# Altium schematic symbol library main.SchLib: 296 symbols (part 3 of 5)
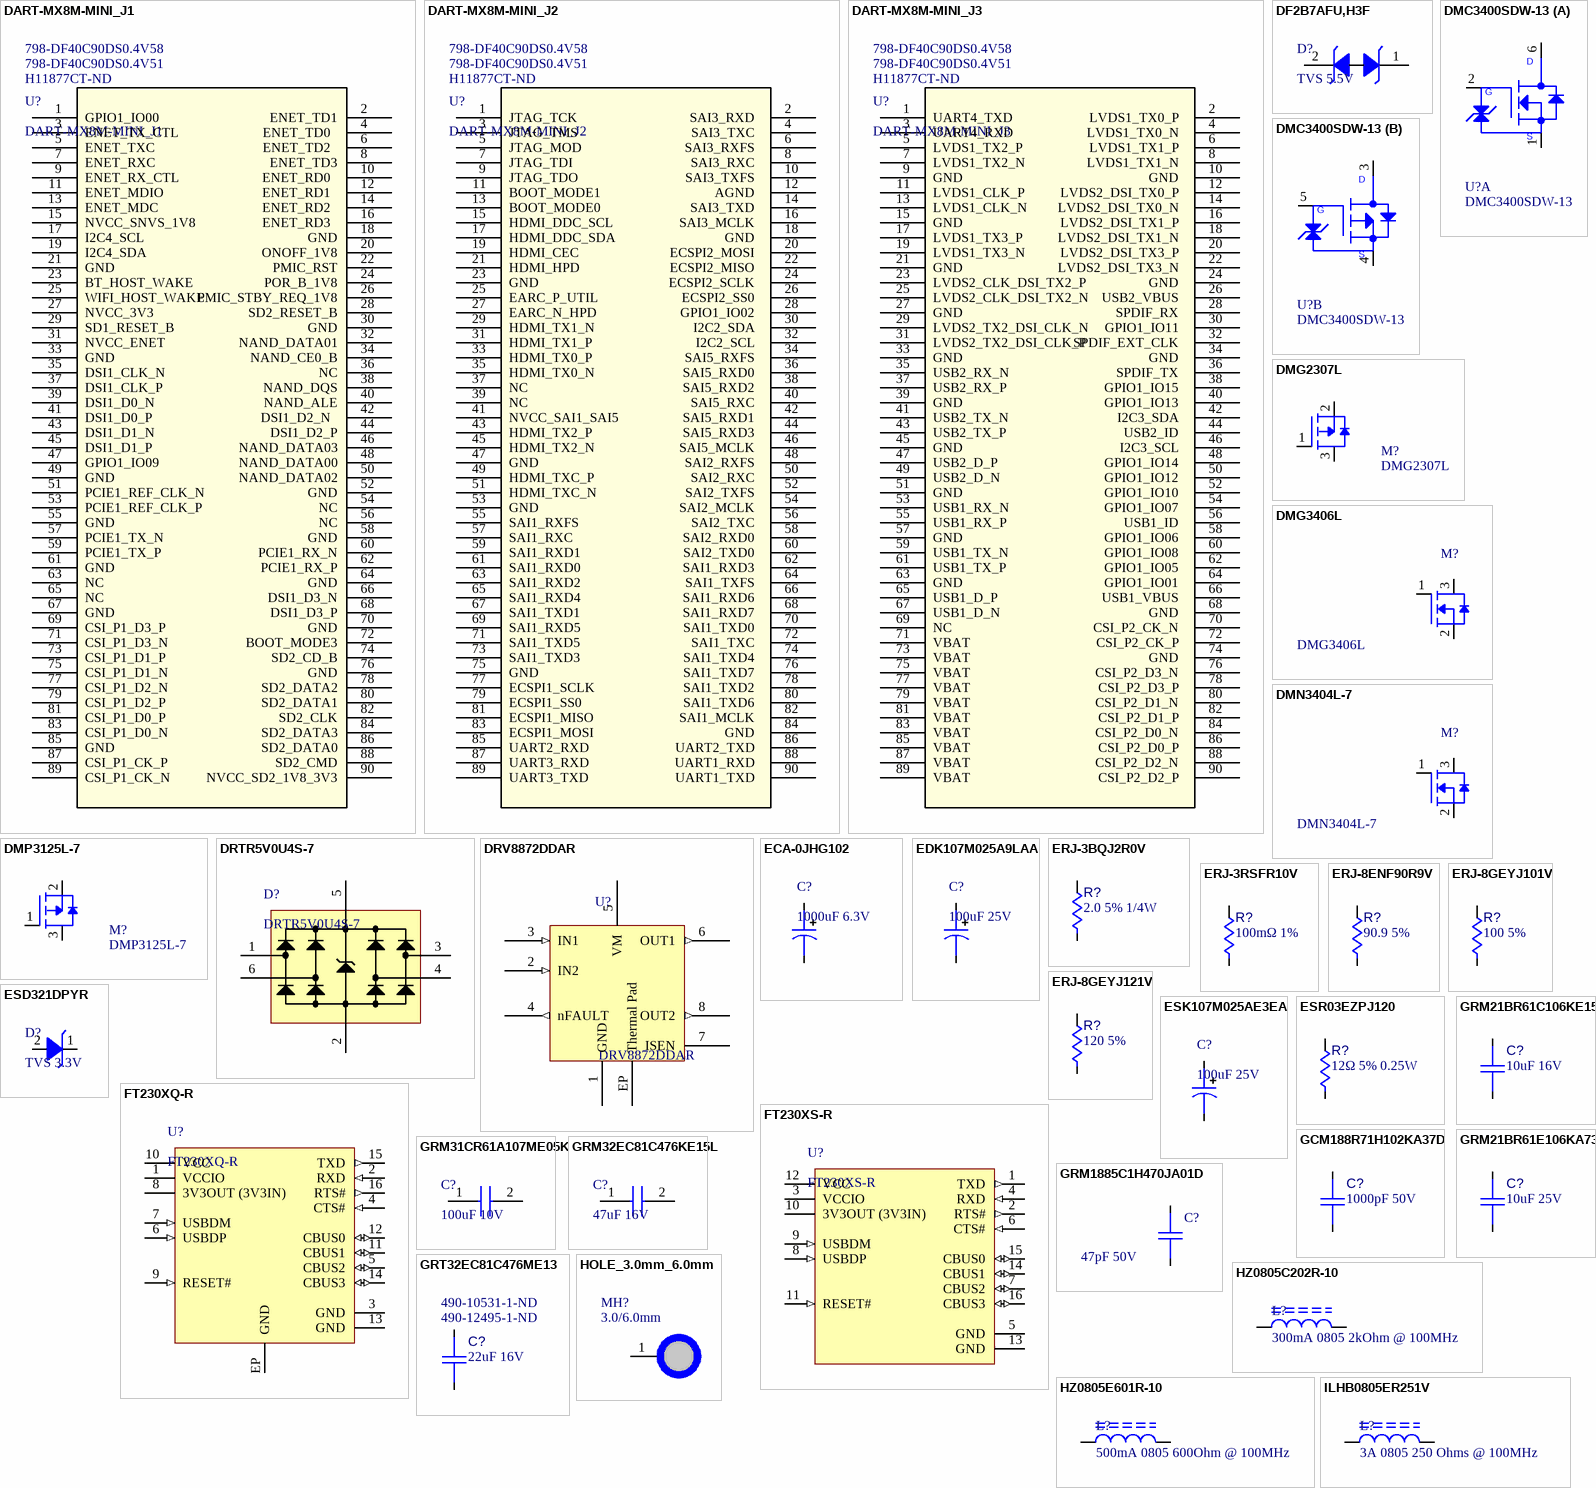
[diagram p11: symbols DART-MX8M-MINI_J1 to ILHB0805ER251V]

## ERJ-8GEYJ121V
designator R?, comment 120 5%
RES SMD 120 OHM 5% 1/4W 1206; Manufacturer: Panasonic; Manufacturer Part Number: ERJ-8GEYJ121V; Power (Watts): 0.25W, 1/4W; Temperature Coefficient: ±200ppm/°C; Resistance: 120ohms; Category: Resistors; Tolerance: ±5%; Features: Automotive; Operating Temperature: -55°C ~ 155°C; ComponentLink1URL: http://www.yageo.com/documents/recent/PYu-RC_Group_51_RoHS_L_7.pdf; ComponentLink1Description: http://www.yageo.com/documents/recent/PYu-RC_Group_51_RoHS_L_7.pdf; Supplier 1: Digi-Key; Supplier Part Number 1: P120ECT-ND
footprint RESC3116X65X50NL20T20 (Chip Resistor, 2-Leads, Body 3.10x1.60mm, IPC Medium Density)
pins: 1, 2

## ESD321DPYR
designator D?, comment TVS 3.3V
TVS DIODE 3.6VWM 6.8VC 2X1SON; Manufacturer: Texas Instruments; Manufacturer Part Number: ESD321DPYR; Voltage - Reverse Standoff (Typ): 3.6V (Max); Capacitance: 0.9pF @ 1MHz; Voltage - Breakdown (Min): 4.5V; Max Operating Temperature: 125°C; ComponentLink1URL: http://www.farnell.com/datasheets/2339786.pdf?src-supplier=Farnell; ComponentLink1Description: http://www.farnell.com/datasheets/2339786.pdf?src-supplier=Farnell; Supplier 1: Digi-Key; Supplier Part Number 1: 296-51108-1-ND
footprint DIODE 0402
pins: 1 K, 2 A

## ESK107M025AE3EA
designator C?, comment 100uF 25V
CAP ALUM 100UF 20% 25V RADIAL; Manufacturer: KEMET; Manufacturer Part Number: ESK107M025AE3EA; Supplier 1: Digi-Key; Category: Aluminum Electrolytic Capacitors; Stock 1: 115854; Pricing 1: 1=0.23000, 10=0.15800, 100=0.08000, 500=0.05474, 1000=0.04842 (USD); Case/Package: Radial; Min Operating Temperature: -40°C; Max Operating Temperature: 85°C; Tolerance: 20%; Voltage Rating: 25V; Capacitance: 100uF; Voltage Rating (DC): 25V; Features: General Purpose; Lead Pitch: 0.098inch; ComponentLink1URL: https://datasheet.ciiva.com/5336/datasheetpn-esk107m025ae3ea-5336461.pdf?src-supplier=Mouser; ComponentLink1Description: https://datasheet.ciiva.com/5336/datasheetpn-esk107m025ae3ea-5336461.pdf?src-supplier=Mouser; Supplier Part Number 1: 399-6650-1-ND
footprint 6.3-11.0_TH_CAP
pins: 1, 2

## ESR03EZPJ120
designator R?, comment 12Ω 5% 0.25W
RES SMD 12 OHM 5% 1/4W 0603; Manufacturer: Rohm; Manufacturer Part Number: ESR03EZPJ120; Power (Watts): 0.25W, 1/4W; Temperature Coefficient: ±200ppm/°C; Resistance: 12ohm; Category: Resistors; Tolerance: ±5%; Features: Automotive AEC-Q200, Pulse Withstanding; Operating Temperature: -55°C ~ 155°C; Supplier 1: Digi-Key; Supplier Part Number 1: RHM12DCT-ND
footprint RESC1608X06N (Chip Resistor, 2-Leads, Body 1.60x0.80mm, IPC Medium Density)
pins: 1, 2

## FT230XQ-R
designator U?
IC USB SERIAL BASIC UART 16QFN; Manufacturer: FTDI; Operating Supply Current: 8mA; Interface: UART,USB; Data Rate: 12Mbps; Operating Supply Voltage: 3.3V ~ 5V; Number of Channels: 1; Manufacturer Part Number: FT230XQ-R; Category: Interface ICs; Min Operating Temperature: -40°C; Max Operating Temperature: 85°C; ComponentLink1URL: https://datasheet.ciiva.com/1787/ds-ft230x-1787315.pdf?src-supplier=Digi-Key; ComponentLink1Description: https://datasheet.ciiva.com/1787/ds-ft230x-1787315.pdf?src-supplier=Digi-Key; Supplier 1: Digi-Key; Supplier Part Number 1: 768-1130-1-ND; Supplier 2: Newark; Supplier Part Number 2: 83T7086
footprint QFP-16 4x4mm w EP
pins: 1 VCCIO (power) "1V8 -3V3 supply for the IO cells.", 2 RXD (in) "Receiving Asynchronous Data Input.", 3 GND (power) "0V Ground input.", 4 CTS# (in) "Clear To Send Control Input / Handshake Signal.", 5 CBUS2 (io) "Configurable CBUS I/O Pin. Function of this pin is configured in the device MTP memory. The default configuration is TXLED#.", 6 USBDP (in) "USB Data Signal Plus.", 7 USBDM (in) "USB Data Signal Minus.", 8 3V3OUT (3V3IN) (power) "3V3 output at 50mA. May be used to power VCCIO. When VCC is 3V3; pin 10 is an input pin and should be connected to pin 12.", 9 RESET# (in) "Reset input (active low).", 10 VCC (power) "5 V (or 3V3) supply to IC.", 11 CBUS1 (io) "Configurable CBUS I/O Pin. Function of this pin is configured in the device MTP memory. The default configuration is RXLED#.", 12 CBUS0 (io) "Configurable CBUS I/O Pin. Function of this pin is configured in the device MTP memory. The default configuration is TXDEN.", 13 GND (power) "0V Ground input.", 14 CBUS3 (io) "Configurable CBUS I/O Pin. Function of this pin is configured in the device MTP memory. The default configuration is SLEEP#.", 15 TXD (out) "Transmit Asynchronous Data Output.", 16 RTS# (out) "Request to Send Control Output / Handshake Signal.", EP GND (power) "0V Ground input."

## FT230XS-R
designator U?
IC USB UART 16-pin SSOP; Manufacturer: FTDI; Operating Supply Current: 8mA; Interface: UART,USB; Data Rate: 12Mbps; Operating Supply Voltage: 5V; Number of Channels: 1; Max Supply Voltage: 5.5V; Min Supply Voltage: 2.97V; Manufacturer Part Number: FT230XS-R; Category: Interface ICs; Stock 1: 36854; Pricing 1: 1=2.04000, 25=1.97000, 100=1.90000, 250=1.71000, 500=1.54000, 1000=1.48750 (USD); Case/Package: SSOP; Min Operating Temperature: -40°C; Max Operating Temperature: 85°C; Height: 0.059inch; ComponentLink1URL: https://datasheet.ciiva.com/1787/ds-ft230x-1787315.pdf?src-supplier=Digi-Key; ComponentLink1Description: https://datasheet.ciiva.com/1787/ds-ft230x-1787315.pdf?src-supplier=Digi-Key; Supplier 1: Digi-Key; Supplier Part Number 1: 768-1135-1-ND; Supplier 2: RSComponents; Supplier Part Number 2: 7570010P
footprint SOP64P600X175-16N (FT230XS-R SOP, 16-Leads, Body 4.90x3.90mm, Pitch 0.64mm, IPC Medium Density)
pins: 1 TXD (out) "Transmit Asynchronous Data Output.", 2 RTS# (out) "Request to Send Control Output / Handshake Signal.", 3 VCCIO (power) "1V8 -3V3 supply for the IO cells.", 4 RXD (in) "Receiving Asynchronous Data Input.", 5 GND (power) "0V Ground input.", 6 CTS# (in) "Clear To Send Control Input / Handshake Signal.", 7 CBUS2 (io) "Configurable CBUS I/O Pin. Function of this pin is configured in the device MTP memory. The default configuration is TXLED#.", 8 USBDP (in) "USB Data Signal Plus.", 9 USBDM (in) "USB Data Signal Minus.", 10 3V3OUT (3V3IN) (power) "3V3 output at 50mA. May be used to power VCCIO. When VCC is 3V3; pin 10 is an input pin and should be connected to pin 12.", 11 RESET# (in) "Reset input (active low).", 12 VCC (power) "5 V (or 3V3) supply to IC.", 13 GND (power) "0V Ground input.", 14 CBUS1 (io) "Configurable CBUS I/O Pin. Function of this pin is configured in the device MTP memory. The default configuration is RXLED#.", 15 CBUS0 (io) "Configurable CBUS I/O Pin. Function of this pin is configured in the device MTP memory. The default configuration is TXDEN.", 16 CBUS3 (io) "Configurable CBUS I/O Pin. Function of this pin is configured in the device MTP memory. The default configuration is SLEEP#."

## GCM188R71H102KA37D
designator C?, comment 1000pF 50V
CAP CER 1000PF 50V X7R 0603; Manufacturer: Murata; Manufacturer Part Number: GCM188R71H102KA37D; Tolerance: 10%; Category: Ceramic Capacitors; Stock 1: 7548353; Pricing 1: 1=0.10000, 10=0.05000, 100=0.02240, 500=0.01602, 1000=0.01258 (USD); Case/Package: 0603; Min Operating Temperature: -55°C; Max Operating Temperature: 125°C; Temperature Coefficient: X7R; Capacitance: 1000pF; Voltage Rating: 50V; Height: 0.8mm; ComponentLink1URL: https://datasheet.ciiva.com/25741/cl10b102ka8nnnc-25741936.pdf?src-supplier=Digi-Key; ComponentLink1Description: https://datasheet.ciiva.com/25741/cl10b102ka8nnnc-25741936.pdf?src-supplier=Digi-Key; Supplier 1: Digi-Key; Supplier Part Number 1: 490-4777-1-ND
footprint CAPC1608X09N (Chip Capacitor, 2-Leads, Body 1.60x0.80mm, IPC Medium Density)
pins: 1, 2

## GRM21BR61C106KE15K
designator C?, comment 10uF 16V
CAP CER 10UF 16V X5R 0805; Manufacturer: Murata Electronics North America; Manufacturer Part Number: GRM21BR61C106KE15K; Tolerance: ±10%; Category: Capacitors; Stock 1: 375724; Pricing 1: 1=0.21, 10=0.152, 100=0.0715, 500=0.05016, 1000=0.04152, 2500=0.03864, 5000=0.03536 (USD); Temperature Coefficient: X5R; Operating Temperature: -55°C ~ 85°C; Features: -; Applications: General Purpose; Mounting Type: Surface Mount, MLCC; ComponentLink1URL: http://search.murata.co.jp/Ceramy/image/img/A01X/G101/ENG/GRM21BR61C106KE15-01.pdf; ComponentLink1Description: http://search.murata.co.jp/Ceramy/image/img/A01X/G101/ENG/GRM21BR61C106KE15-01.pdf; Capacitance: 10uF; Supplier 1: Digi-Key; Supplier Part Number 1: 490-6473-1-ND; Supplier 2: RSComponents; Supplier Part Number 2: 8202762
footprint CAPC2012X14N (Chip Capacitor, 2-Leads, Body 2.00x1.25mm, IPC Medium Density)
pins: 1, 2

## GRM21BR61E106KA73L
designator C?, comment 10uF 25V
CAP CER 10UF 25V X5R 0805; Manufacturer: Muata; Manufacturer Part Number: GRM21BR61E106KA73L; Tolerance: ±10%; Category: Capacitors; Temperature Coefficient: X5R; Operating Temperature: -55°C ~ 85°C; Features: -; Mounting Type: Surface Mount, MLCC; ComponentLink1URL: http://search.murata.co.jp/Ceramy/image/img/A01X/G101/ENG/GRM21BR61C106KE15-01.pdf; ComponentLink1Description: http://search.murata.co.jp/Ceramy/image/img/A01X/G101/ENG/GRM21BR61C106KE15-01.pdf; Capacitance: 10uF; Voltage - Rated: 25V; Supplier 1: Digi-Key; Supplier Part Number 1: 490-5523-1-ND; Supplier 2: Newark; Supplier Part Number 2: 19X1719
footprint CAPC2012X14N (Chip Capacitor, 2-Leads, Body 2.00x1.25mm, IPC Medium Density)
pins: 1, 2

## GRM31CR61A107ME05K
designator C?, comment 100uF 10V
CAP CER 100UF 10V X5R 1206; Manufacturer_Name: Murata Electronics; Manufacturer_Part_Number: GRM31CR61A107ME05K; Tolerance: 20%; Datasheet Link: https://www.digikey.com/en/products/detail/murata-electronics/GRM32EC81C476KE15L/5027615; Height: -; ComponentLink1Description: New link; ComponentLink1URL: *; Supplier 1: Mouser; Capacitance: 100uF; Supplier Part Number 1: 81-GRM31CR61A107ME5K; Voltage rating: 10V; Temprature Rating: X5R
footprint CAPC3225X280N
pins: 1, 2

## GRM32EC81C476KE15L
designator C?, comment 47uF 16V
CAP CER 47UF 16V X6S 1210; Manufacturer_Name: Murata Electronics; Manufacturer_Part_Number: GRM32EC81C476KE15L; Datasheet Link: https://www.digikey.com/en/products/detail/murata-electronics/GRM32EC81C476KE15L/5027615; Height: -; Digi-Key Part Number: 490-10531-1-ND; Mouser Price/Stock: https://www.mouser.com/ProductDetail/Murata/GRM32EC81C476KE15L?qs=sGAEpiMZZMtXHE36kCvv33S6FxxxMfMjoBSJr7MM4k0%3D; ComponentLink1Description: New link; ComponentLink1URL: *
footprint CAPC3225X280N
pins: 1, 2

## GRM1885C1H470JA01D
designator C?, comment 47pF 50V
CAP CER 47PF 50V C0G/NP0 0603; Manufacturer: Murata; Manufacturer Part Number: GRM1885C1H470JA01D; Tolerance: 5%; Temperature Coefficient: C0G; Category: Ceramic Capacitors; Stock 1: 513531; Case/Package: 0603; Min Operating Temperature: -55°C; Max Operating Temperature: 125°C; Capacitance: 47pF; Voltage Rating: 50V; Height: 0.8mm; Supplier 1: Digi-Key; Supplier Part Number 1: 490-1419-1-ND; Load: *
footprint CAPC1608X09N (Chip Capacitor, 2-Leads, Body 1.60x0.80mm, IPC Medium Density)
pins: 1, 2

## GRT32EC81C476ME13
designator C?, comment 22uF 16V  Supplier Part Number 1: 490-12495-1-ND  Supplier Part Number 2: 490-10531-1-ND
CAP CER 47UF 16V X6S 1210; Manufacturer: TDK; Manufacturer Part Number: CGA6P1X7R1C226M250AC; Temperature Coefficient: X7R; Tolerance: 20%; Category: Ceramic Capacitors; Stock 1: 334765; Pricing 1: 1=1.15000, 10=0.90600, 100=0.67920, 500=0.51318 (USD); Case/Package: 1210; Min Operating Temperature: -55°C; Max Operating Temperature: 125°C; Capacitance: 22uF; Voltage Rating: 16V; Height: 2.5mm; ComponentLink1URL: https://datasheet.ciiva.com/24217/cga6p1x7r1c226m250ac-266077-24217047.pdf?src-supplier=Mouser; ComponentLink1Description: https://datasheet.ciiva.com/24217/cga6p1x7r1c226m250ac-266077-24217047.pdf?src-supplier=Mouser; Supplier 1: Digi-Key; Supplier 2: Digi-Key
footprint CAPC3225X25N (Chip Capacitor, 2-Leads, Body 3.20x2.50mm, IPC Medium Density)
pins: 1, 2

## HOLE_3.0mm_6.0mm
designator MH?, comment 3.0/6.0mm  (no BOM)
MISC HOLE M3 3.0 ID 6.0mm OD plated
footprint HOLE_3_6 (3 ID / 6 OD)
pins: 1

## HZ0805C202R-10
designator L?, comment 300mA 0805 2kOhm @ 100MHz
FERRITE BEAD 2 KOHM 0805 1LN; Manufacturer: Laird; Manufacturer Part Number: HZ0805C202R-10; Core Material: Metal,Composite; DC Resistance (DCR): 500mOhm; Impedance @ Frequency: 2 kOhms @ 100MHz; Stock 1: 156,404; Case/Package: 0805; Min Operating Temperature: -40°C; Max Operating Temperature: 125°C; Current Rating: 300mA; ComponentLink1URL: http://www.samsungsem.com/kr/support/product-search/inductor/CIGT201208EH1R0MNE.jsp?src-supplier=Digi-Key; ComponentLink1Description: http://www.samsungsem.com/kr/support/product-search/inductor/CIGT201208EH1R0MNE.jsp?src-supplier=Digi-Key; Supplier 1: Digi-Key; Supplier Part Number 1: 240-2396-1-ND
footprint CAPC2012X14N (Chip Capacitor, 2-Leads, Body 2.00x1.25mm, IPC Medium Density)
pins: 1, 2

## HZ0805E601R-10
designator L?, comment 500mA 0805 600Ohm @ 100MHz
FERRITE BEAD 600 OHM 0805 1LN; Manufacturer: Laird; Manufacturer Part Number: HZ0805E601R-10; Core Material: Metal,Composite; DC Resistance (DCR): 300mOhm; Impedance @ Frequency: 600 Ohms @ 100MHz; Stock 1: 4430; Case/Package: 0805; Min Operating Temperature: -40°C; Max Operating Temperature: 125°C; Current Rating: 500mA; Supplier 1: Digi-Key; Supplier Part Number 1: 240-2399-1-ND
footprint CAPC2012X14N (Chip Capacitor, 2-Leads, Body 2.00x1.25mm, IPC Medium Density)
pins: 1, 2

## ILHB0805ER251V
designator L?, comment 3A 0805 250 Ohms @ 100MHz
FERRITE BEAD 250 OHM 0805 1LN; Manufacturer: Vishay Dale; Manufacturer Part Number: ILHB0805ER251V; Core Material: Metal,Composite; DC Resistance (DCR): 40mOhm; Case/Package: 0805; Min Operating Temperature: -55°C; Max Operating Temperature: 125°C; Current Rating: 3A; ComponentLink1URL: http://www.samsungsem.com/kr/support/product-search/inductor/CIGT201208EH1R0MNE.jsp?src-supplier=Digi-Key; ComponentLink1Description: http://www.samsungsem.com/kr/support/product-search/inductor/CIGT201208EH1R0MNE.jsp?src-supplier=Digi-Key; Supplier 1: Digi-Key; Supplier Part Number 1: 541-2300-1-ND; Supplier 2: Mouser; Supplier Part Number 2: 70-ILHB0805ER251V
footprint CAPC2012X14N (Chip Capacitor, 2-Leads, Body 2.00x1.25mm, IPC Medium Density)
pins: 1, 2

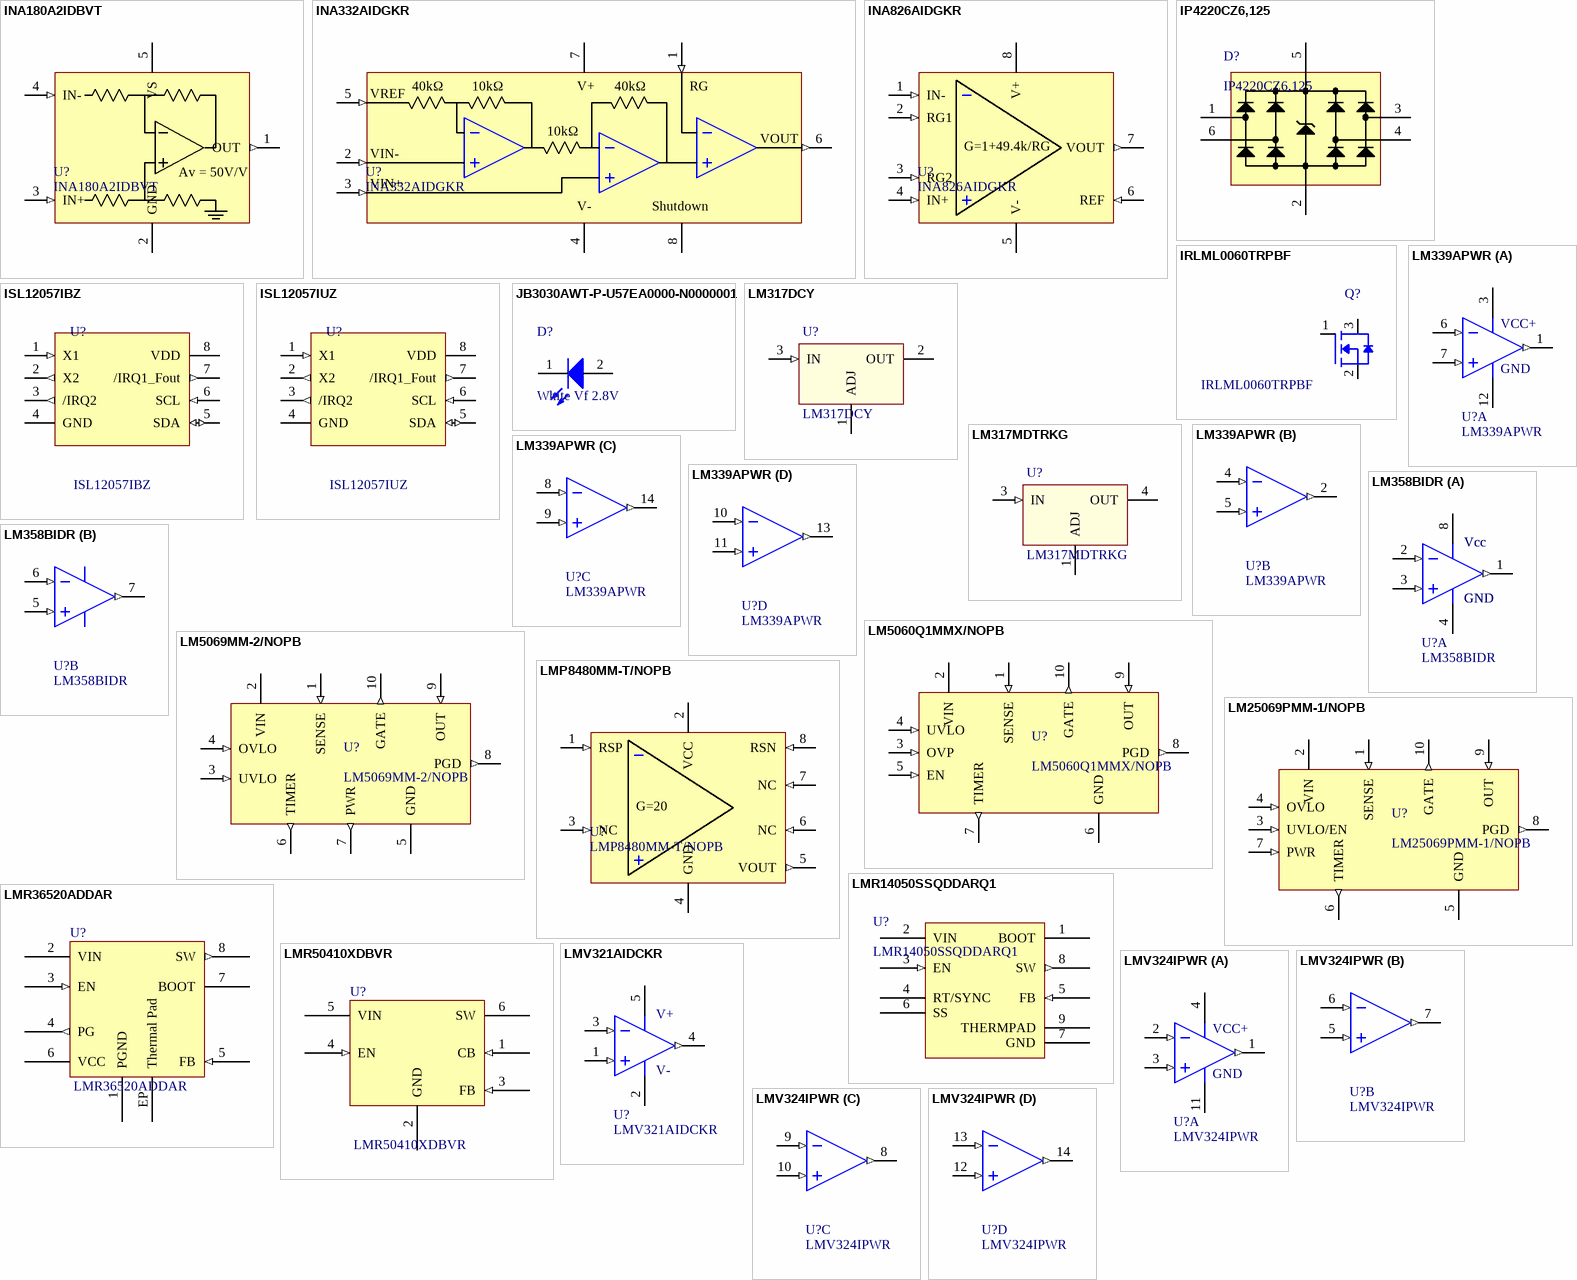
[diagram p4: symbols INA180A2IDBVT to LMV324IPWR]

## INA180A2IDBVT
designator U?
IC CURR SENSE 1 CIRCUIT SOT23-5; Manufacturer: Texas Instruments; -3dB Bandwidth: 350 kHz; Supply Voltage: 2.7V ~ 5.5V; Slew Rate: 2V/µs; Voltage - Input Offset: 100µV; Current - Input Bias: 80µA; Current - Supply: 260µA; Output Type: Rail-to-Rail; Manufacturer Part Number: INA180A2IDBVT; Supplier 1: Digi-Key; Supplier Part Number 1: 296-46628-1-ND; Supplier 2: Arrow Electronics; Supplier Part Number 2: INA180A2IDBVT; Supplier 3: Mouser; Supplier Part Number 3: 595-INA180A2IDBVT
footprint SOT-23-5
pins: 1 OUT (out), 2 GND (power), 3 IN+ (in), 4 IN- (in), 5 VS (power)
text: Av = 50V/V

## INA332AIDGKR
designator U?
IC INST AMP 1 CIRCUIT 8VSSOP; Manufacturer: Texas Instruments; Gain Bandwidth Product: 2MHz; Supply Voltage: 2.85V ~ 5.5V, ±1.425V ~ 2.25V; Slew Rate: 5V/µs; Voltage - Input Offset: 2mV; Current - Input Bias: 0.5pA; Current - Supply: 415µA; Output Type: Rail-to-Rail; Current - Output / Channel: 48mA; Manufacturer Part Number: INA332AIDGKR; Stock 1: 23,867; Supplier 1: Digi-Key; Supplier Part Number 1: 296-41265-1-ND
footprint VSSOP-8 3.0mm body width, pitch 0.65mm
pins: 1 RG (in), 2 Vin- (in), 3 Vin+ (in), 4 V- (power), 5 REF (in), 6 Vout (out), 7 V+ (power), 8 Shutdown (power)
text: 40kΩ; 10kΩ; VREF; VOUT; VIN-; VIN+

## INA826AIDGKR
designator U?
IC INST AMP 1 CIRCUIT 8VSSOP; Manufacturer: Texas Instruments; -3dB Bandwidth: 1MHz; Supply Voltage: 2.7V ~ 36V, ±1.35V ~ 18V; Slew Rate: 1V/µs; Voltage - Input Offset: 40µV; Current - Input Bias: 30nA; Current - Supply: 200µA; Output Type: Rail-to-Rail; Current - Output / Channel: 16mA; Manufacturer Part Number: INA826AIDGKR; Stock 1: 19,863; Supplier 1: Digi-Key; Supplier Part Number 1: 296-29663-1-ND
footprint VSSOP-8 3.0mm body width, pitch 0.65mm
pins: 1 IN- (in), 2 RG1 (in), 3 RG2 (in), 4 IN+ (in), 5 V- (power), 6 REF (in), 7 VOUT (out), 8 V+ (power)
text: G=1+49.4k/RG

## IP4220CZ6,125
designator D?
TVS DIODE 5.5V 6TSOP; Manufacturer: NXP Semiconductors; Voltage - Reverse Standoff (Typ): 5.5V (Max); Capacitance: 1pF @ 1MHz; Voltage - Breakdown (Min): 14.4V; Manufacturer Part Number: IP4220CZ6,125; Max Operating Temperature: 85C; ComponentLink1URL: http://www.farnell.com/datasheets/2339786.pdf?src-supplier=Farnell; ComponentLink1Description: http://www.farnell.com/datasheets/2339786.pdf?src-supplier=Farnell; Supplier 1: Mouser; Supplier Part Number 1: 771-IP4220CZ6F; Supplier 2: Newark; Supplier Part Number 2: 35AH0784; Supplier 3: Digi-Key; Supplier Part Number 3: 1727-3578-1-ND
footprint TSOP 6, Body 3.00x1.5mm, Pitch 0.95mm
pins: 1 D1+, 2 GND, 3 D2+, 4 D2-, 5 NC, 6 D1-

## IRLML0060TRPBF
designator Q?
MOSFET N-CH 60V 2.7A SOT-23; Manufacturer: Infineon Technologies; FET Type: N-Channel; Current - Continuous Drain (Id) @ 25°C: 2.7A (Ta); Drive Voltage (Max Rds On,  Min Rds On): 4.5V, 10V; Vgs(th) (Max) @ Id: 2.5V @ 25µA; Vgs (Max): ±16V; Power Dissipation (Max): 1.25W (Ta); Rds On (Max) @ Id, Vgs: 92 mOhm @ 2.7A, 10V; Supplier 1: Digi-Key; Category: Discrete Semiconductor Products; Stock 1: 252946; Pricing 1: 1=0.55, 10=0.387, 100=0.2542, 500=0.15024, 1000=0.11557 (USD); Technology: MOSFET (Metal Oxide); FET Feature: -; Operating Temperature: -55°C ~ 150°C (TJ); Mounting Type: Surface Mount; ComponentLink1URL: https://www.infineon.com/dgdl/irlml0060pbf.pdf?fileId=5546d462533600a40153566493ef25e6; ComponentLink1Description: https://www.infineon.com/dgdl/irlml0060pbf.pdf?fileId=5546d462533600a40153566493ef25e6; Supplier Part Number 1: IRLML0060TRPBFDKR-ND; PartNumber: IRLML0060TRPBF; Manufacturer Part Number: IRLML0060TRPBF
footprint SOT23 TI# SOT-23 3L (SOT23, 3-Leads, Body 2.92x2.40mm, Pitch 0.95mm, IPC Medium Density)
pins: 1 G, 2 S, 3 D

## ISL12057IBZ
designator U?
IC RTC CLK/CALENDAR I2C 8-SOIC; Manufacturer: Intersil; Interface: I²C; Voltage - Supply: 1.8V ~ 3.6V; Connectivity: I²C, SPI; Time Format: HH:MM:SS (12/24 hr); Date Format: YY-MM-DD-dd; Manufacturer Part Number: ISL12057IBZ; Operating Temperature: -40°C ~ 85°C (TA); Type: Clock/Calendar; Features: Alarm, Leap Year; Supplier 1: Digi-Key; Supplier Part Number 1: ISL12057IBZ-ND
footprint SOIC-8 3.9mm Width
pins: 1 X1 (in), 2 X2 (out), 3 /IRQ2 (out), 4 GND (power), 5 SDA (io), 6 SCL (in), 7 /IRQ1_Fout (out), 8 VDD (power)

## ISL12057IUZ
designator U?
IC RTC CLK/CALENDAR I2C 8-MSOP; Manufacturer: Intersil; Interface: I²C; Voltage - Supply: 1.8V ~ 3.6V; Connectivity: I²C, SPI; Time Format: HH:MM:SS (12/24 hr); Date Format: YY-MM-DD-dd; Manufacturer Part Number: ISL12057IUZ; Operating Temperature: -40°C ~ 85°C (TA); Type: Clock/Calendar; Features: Alarm, Leap Year; Supplier 1: Digi-Key; Supplier Part Number 1: ISL12057IUZ-ND; Supplier 2: RSComponents; Supplier Part Number 2: 1969066
footprint MSOP-8 3mm
pins: 1 X1 (in), 2 X2 (out), 3 /IRQ2 (out), 4 GND (power), 5 SDA (io), 6 SCL (in), 7 /IRQ1_Fout (out), 8 VDD (power)

## JB3030AWT-P-U57EA0000-N0000001
designator D?, comment White Vf 2.8V
CREE J SERIES JB3030 LIGHT EMITT; Manufacturer: Cree Inc.; Manufacturer Part Number: JB3030AWT-P-U57EA0000-N0000001; Viewing Angle: 120deg; Lens Color: Colorless; Lens Transparency: Clear; Lumens/Watt: 165lm/W; Current - Test: 65mA; CCT: 5700K; Voltage - Forward (Vf) (Typ): 2.8V; Mounting Type: Surface Mount; Height (Max): 0.72mm; Supplier 1: Digi-Key; Supplier Part Number 1: 2138-JB3030AWT-P-U57EA0000-N0000001CT-ND
footprint Cree 2138-JB3030AWT-P-U57EA0000-N0000001
pins: 1 K, 2 A

## LM317DCY
designator U?
IC REG LDO, 1.5A Adjustable, SOT-223; Manufacturer: Texas Instruments; Output Voltage: 37V; Quiescent Current: 3.5mA; Number of Outputs: 1; Dropout Voltage: 2V; Min Input Voltage: 4.2V; Max Input Voltage: 40V; Reference Voltage: 1.3V; Power Supply Rejection Ratio (PSRR): 64dB; Min Output Voltage: 1.25V; Manufacturer Part Number: LM317DCY; Stock 1: 1224; Pricing 1: 1=0.89, 10=0.785, 100=0.6021, 500=0.476, 1000=0.3808 (USD); Case/Package: SOT-223; Min Operating Temperature: 0°C; Max Operating Temperature: 125°C; Output Current: 1.5A; Max Output Current: 1.5A; Number of Regulators: 1; Max Output Voltage: 37V; Height: 1.6mm; ComponentLink1URL: https://datasheet.ciiva.com/3223/lm317-3223664.pdf; ComponentLink1Description: https://datasheet.ciiva.com/3223/lm317-3223664.pdf; Supplier 1: Digi-Key; Supplier Part Number 1: 296-23224-5-ND; Supplier 2: Mouser; Supplier Part Number 2: 595-LM317DCY; Supplier 3: Mouser; Supplier Part Number 3: 926-LM317EMP/NOPB; Supplier 4: Farnell; Supplier Part Number 4: 3122680
footprint SOT223_SOT230P700X180-4N (SOT223, 4-Leads, Body 6.50x7.00mm (avg), Pitch 2.30mm, IPC Medium Density)
pins: 1 ADJ (power), 2 OUT, 3 IN (in)

## LM317MDTRKG
designator U?
IC REG LIN POS ADJ 500MA TO252-3; Manufacturer: On Semiconductor; Output Current: 0.5A; Quiescent Current: 3.5mA; Number of Outputs: 1; Dropout Voltage: 2V; Max Input Voltage: 40V; Reference Voltage: 1.25V; Power Supply Rejection Ratio (PSRR): 80dB; Max Output Voltage: 37V; Manufacturer Part Number: LM317MDTRKG; Case/Package: TO-252-3; Min Operating Temperature: 0°C; Max Operating Temperature: 125°C; Number of Regulators: 1; Min Output Voltage: 1.25V; Height: 1.6mm; ComponentLink1URL: https://datasheet.ciiva.com/3223/lm317-3223664.pdf; ComponentLink1Description: https://datasheet.ciiva.com/3223/lm317-3223664.pdf; Supplier 1: Newark; Supplier Part Number 1: 38AH0652; Supplier 2: Mouser; Supplier Part Number 2: 863-LM317MDTRKG; Supplier 3: Avnet; Supplier Part Number 3: LM317MDTRKG; Supplier 4: RSComponents; Supplier Part Number 4: 6889228P; Supplier 5: Digi-Key; Supplier Part Number 5: LM317MDTRKGOSTR-ND
footprint DPAK (TO-252-3)
pins: 1 ADJ (power), 3 IN (in), 4 OUT

## LM339APWR
designator U?
IC QUAD DIFF COMPARATOR 14-TSSOP; Manufacturer: Texas Instruments; Gain Bandwidth Product: 1MHz; Supply Voltage: 2V ~ 30V, ±1V ~ 15V; Slew Rate: 1V/us; Voltage - Input Offset: 3mV @ 30V; Current - Input Bias: 0.25µA @ 5V; Current - Supply: 2.5mA; Output Type: CMOS, MOS, Open-Collector, TTL; Current - Output / Channel: 20mA; Stock 1: 18110; ComponentLink1Description: New link; ComponentLink1URL: https://www.digikey.com/en/products/detail/texas-instruments/LMV324IPWR/381071; Manufacturer Part Number: LM339APWR; Supplier 1: Digi-Key; Supplier Part Number 1: 296-18454-1-ND
footprint TSSOP-14, 4.4mm body width, pitch 0.65mm (TSOP, 14-Leads, Body 4.40mm width, Pitch 0.65mm)
part A pins: 1 1OUT (out), 3 VCC+ (power), 6 1IN- (in), 7 1IN+ (in), 12 GND (power)
part B pins: 2 2OUT (out), 4 2IN- (in), 5 2IN+ (in)
part C pins: 8 3IN- (in), 9 3IN+ (in), 14 3OUT (out)
part D pins: 10 4IN- (in), 11 4IN+ (in), 13 4OUT (out)

## LM358BIDR
designator U?
IC OPAMP GP 2 CIRCUIT SOIC8; Manufacturer: Texas Instruments; Manufacturer Part Number: LM358BIDR; Stock 1: 8840; Pricing 1: 1=0.44000, 10=0.32800, 25=0.28720, 100=0.16400, 250=0.15376, 500=0.12300, 1000=0.09430 (USD); Supplier 1: Digi-Key; Supplier Part Number 1: 296-LM358BIDRCT-ND; Supplier 2: Mouser; Supplier Part Number 2: 595-LM358DR; Supplier 3: Newark; Supplier Part Number 3: 34AH0957
footprint SOIC127P600X175-8N (SOIC, 8-Leads, Body 4.90x3.90mm, Pitch 1.27mm, IPC Medium Density)
part A pins: 1 OUTA (out), 2 INA- (in), 3 INA+ (in), 4 V- (power), 8 V+ (power)
part B pins: 5 INB+ (in), 6 INB- (in), 7 OUTB (out)
part A text: Vcc; GND

## LM5060Q1MMX/NOPB
designator U?
IC GATE DRVR HIGH-SIDE 10VSSOP; Manufacturer: Texas Instruments; Supply Voltage: 5.5V ~ 65V; Logic Voltage - VIL, VIH: 0.8V, 2V; Mfg PN: LM5060Q1MMX/NOPB; Type: Gate Driver; Supplier 1: Digi-Key; Supplier Part Number 1: 296-37381-1-ND
footprint TSSOP-10, 3mm Width, 0.5mm Pitch
pins: 1 SENSE (in), 2 VIN (power), 3 OVP (in), 4 UVLO (in), 5 EN (in), 6 GND (power), 7 TIMER (out), 8 PGD (out), 9 OUT (in), 10 GATE (out)

## LM5069MM-2/NOPB
designator U?
IC HOT SWAP CTRLR GP 10VSSOP; Manufacturer: Texas Instruments; Quiescent Current: 1.3mA; Supply Voltage: 9V ~ 80V; Mfg PN: LM5069MM-2/NOPB; Type: Hot Swap Controller; Supplier 1: Digi-Key; Supplier Part Number 1: LM5069MM-2/NOPBCT-ND; Features: Auto Retry
footprint TSSOP-10, 3mm Width, 0.5mm Pitch
pins: 1 SENSE (in), 2 VIN (power), 3 UVLO (in), 4 OVLO (in), 5 GND (power), 6 TIMER (out), 7 PWR (out), 8 PGD (out), 9 OUT (in), 10 GATE (out)

## LM25069PMM-1/NOPB
designator U?
IC HOT SWAP CTRLR GP 10VSSOP; Manufacturer: Texas Instruments; Mfg PN: LM5060Q1MMX/NOPB; Supply Voltage: 2.9V ~ 17V; Logic Voltage - VIL, VIH: 0.8V, 2V; Type: Gate Driver; Supplier 1: Digi-Key; Supplier Part Number 1: LM25069PMM-1/NOPBCT-ND; Supplier 2: Mouser; Supplier Part Number 2: 926-LM25069PMM1NOPB
footprint TSSOP-10, 3mm Width, 0.5mm Pitch
pins: 1 SENSE (in), 2 VIN (power), 3 UVLO/EN (in), 4 OVLO (in), 5 GND (power), 6 TIMER (out), 7 PWR (in), 8 PGD (out), 9 OUT (in), 10 GATE (out)

## LMP8480MM-T/NOPB
designator U?
IC CURR SENSE 1 CIRCUIT 8VSSOP; Manufacturer: Texas Instruments; -3dB Bandwidth: 270kHz; Supply Voltage: 4.5V ~ 76V; Slew Rate: 1V/µs; Voltage - Input Offset: 80µV; Current - Input Bias: 6.3µA; Current - Supply: 88µA; Manufacturer Part Number: LMP8480MM-T/NOPB; Stock 1: 5,944; Supplier 1: Digi-Key; Supplier Part Number 1: 296-40284-1-ND
footprint VSSOP-8 3.0mm body width, pitch 0.65mm
pins: 1 RSP (in), 2 VCC (power), 3 NC (in), 4 GND (power), 5 VOUT (out), 6 NC (in), 7 NC (in), 8 RSN (in)
text: G=20

## LMR14050SSQDDARQ1
designator U?
IC REG BUCK 4-40V 5A automotive 8SOIC; Manufacturer: Texas Instruments; Quiescent Current: 40uA; Number of Outputs: 1; Min Input Voltage: 4V; Max Input Voltage: 40V; Min Output Voltage: 800mV; Max Output Voltage: 28V; Switching Frequency: 2.5MHz; Synchronous Rectifier: No; Output Type: Adjustable; Output Configuration: Positive; Supplier 1: Digi-Key; Manufacturer Part Number: LMR14050SSQDDARQ1; Category: Voltage Regulators - Switching; Stock 1: 9832; Pricing 1: 1=3.30000, 10=2.96500, 25=2.80360, 100=2.30510, 250=2.06836, 500=1.99360, 1000=1.65718 (USD); Case/Package: SOIC; Min Operating Temperature: -40°C; Max Operating Temperature: 125°C; Output Current: 5A; Supplier Part Number 1: 296-43402-1-ND
footprint TI_LMR14050SDDAR
pins: 1 BOOT, 2 VIN (power), 3 EN (in), 4 RT/SYNC, 5 FB (in), 6 SS, 7 GND (power), 8 SW (out), 9 THERMPAD

## LMR36520ADDAR
designator U?
IC DC/DC BUCK CONVERTER 65V 2A; Manufacturer: Texas Instruments; Number of Outputs: 1; Voltage - Output (Max): 28V; Switching Frequency: 400kHz; Voltage - Input (Min): 4.2V; Output Type: Adjustable; Voltage - Output (Min/Fixed): 1V; Synchronous Rectifier: Yes; Manufacturer Part Number: LMR36520ADDAR; Stock 1: 1968; Operating Temperature: -40°C ~ 125°C (TJ); Topology: Buck; Current - Output: 2A; Voltage - Input (Max): 65V; Supplier 1: Digi-Key; Supplier Part Number 1: 296-LMR36520ADDARCT-ND
footprint 8-SO PowerPad
pins: 1 PGND (power), 2 VIN (power), 3 EN (in), 4 PG (out), 5 FB (in), 6 VCC (power), 7 BOOT (power), 8 SW (out), EP Thermal Pad (power)

## LMR50410XDBVR
designator U?
SIMPLE SWITCHER 4-V TO 36-V, 1-A; Manufacturer: Texas Instruments; Function: Step Down; Output Configuration: Positive; Topology: Buck; Output Type: Adjustable; Number of Outputs: 1; Voltage - Input (Min): 4V; Voltage - Input (Max): 36V; Voltage - Output (Min/Fixed): 1V; Voltage - Output (Max): 28V; Current - Output: 1A; Frequency - Switching: 700kHz; Synchronous Rectifier: Yes; Manufacturer Part Number: LMR50410XDBVR; Category: Voltage Regulators - Switching; Stock 1: 2793; Operating Temperature: -40°C ~ 150°C (TJ); Supplier 1: Digi-Key; Supplier 2: Mouser; Supplier Part Number 2: 595-LMR50410XDBVR; Supplier Part Number 1: 296-LMR50410XDBVRCT-ND
footprint SOT95P280X145-6N (SOT23, 6-Leads, Body 2.90x2.80mm, Pitch 0.95mm, IPC Medium Density)
pins: 1 CB (in), 2 GND (power), 3 FB (in), 4 EN (in), 5 VIN (power), 6 SW (power)

## LMV321AIDCKR
designator U?
IC OPAMP LV RAIL-TO-RAIL 1 CIRCUIT SOT23-5; Manufacturer: Texas Instruments; Number of Channels: 1; Supplier 1: Digi-Key; Manufacturer Part Number: LMV321AIDCKR; Category: Amplifiers - Op Amps, Buffer, Instrumentation; Stock 1: 2987; Pricing 1: 1=0.39000, 10=0.33800, 25=0.31520, 100=0.23400, 250=0.19800, 500=0.18900, 1000=0.13950 (USD); Min Operating Temperature: -40°C; Max Operating Temperature: 125°C; Supplier Part Number 1: 296-53221-1-ND
footprint SOT65P210X110-5N (SOT23, 5-Leads, Body 2.00x2.10mm, Pitch 0.65mm, IPC Medium Density)
pins: 1 INA+ (in), 2 V- (power), 3 INA- (in), 4 OUT (out), 5 V+ (power)

## LMV324IPWR
designator U?
IC OPAMP GP 4 CIRCUIT 14TSSOP; Manufacturer: Texas Instruments; Gain Bandwidth Product: 1MHz; Supply Voltage: 2.7V-5.5V; Slew Rate: 1V/us; Voltage - Input Offset: 1.7mV; Current - Input Bias: 15nA; Current - Supply: 410µA (x4 Channels); Output Type: Rail-to-Rail; Current - Output / Channel: 40mA; Stock 1: 8840; Pricing 1: 1=0.46000, 10=0.3900, 25=0.36760, 100=0.27300, 250=0.23100, 500=0.22050, 1000=0.16275 (USD); ComponentLink1Description: New link; ComponentLink1URL: https://www.digikey.com/en/products/detail/texas-instruments/LMV324IPWR/381071; Manufacturer Part Number: LMV324IPWR; Supplier 1: Digi-Key; Supplier Part Number 1: 296-9570-1-ND; Supplier 2: Digi-Key; Supplier Part Number 2: 296-39048-1-ND
footprint TSSOP-14, 4.4mm body width, pitch 0.65mm (TSOP, 14-Leads, Body 4.40mm width, Pitch 0.65mm)
part A pins: 1 1OUT (out), 2 1IN- (in), 3 1IN+ (in), 4 VCC+ (power), 11 GND (power)
part B pins: 5 2IN+ (in), 6 2IN- (in), 7 2OUT (out)
part C pins: 8 3OUT (out), 9 3IN- (in), 10 3IN+ (in)
part D pins: 12 4IN+ (in), 13 4IN- (in), 14 4OUT (out)

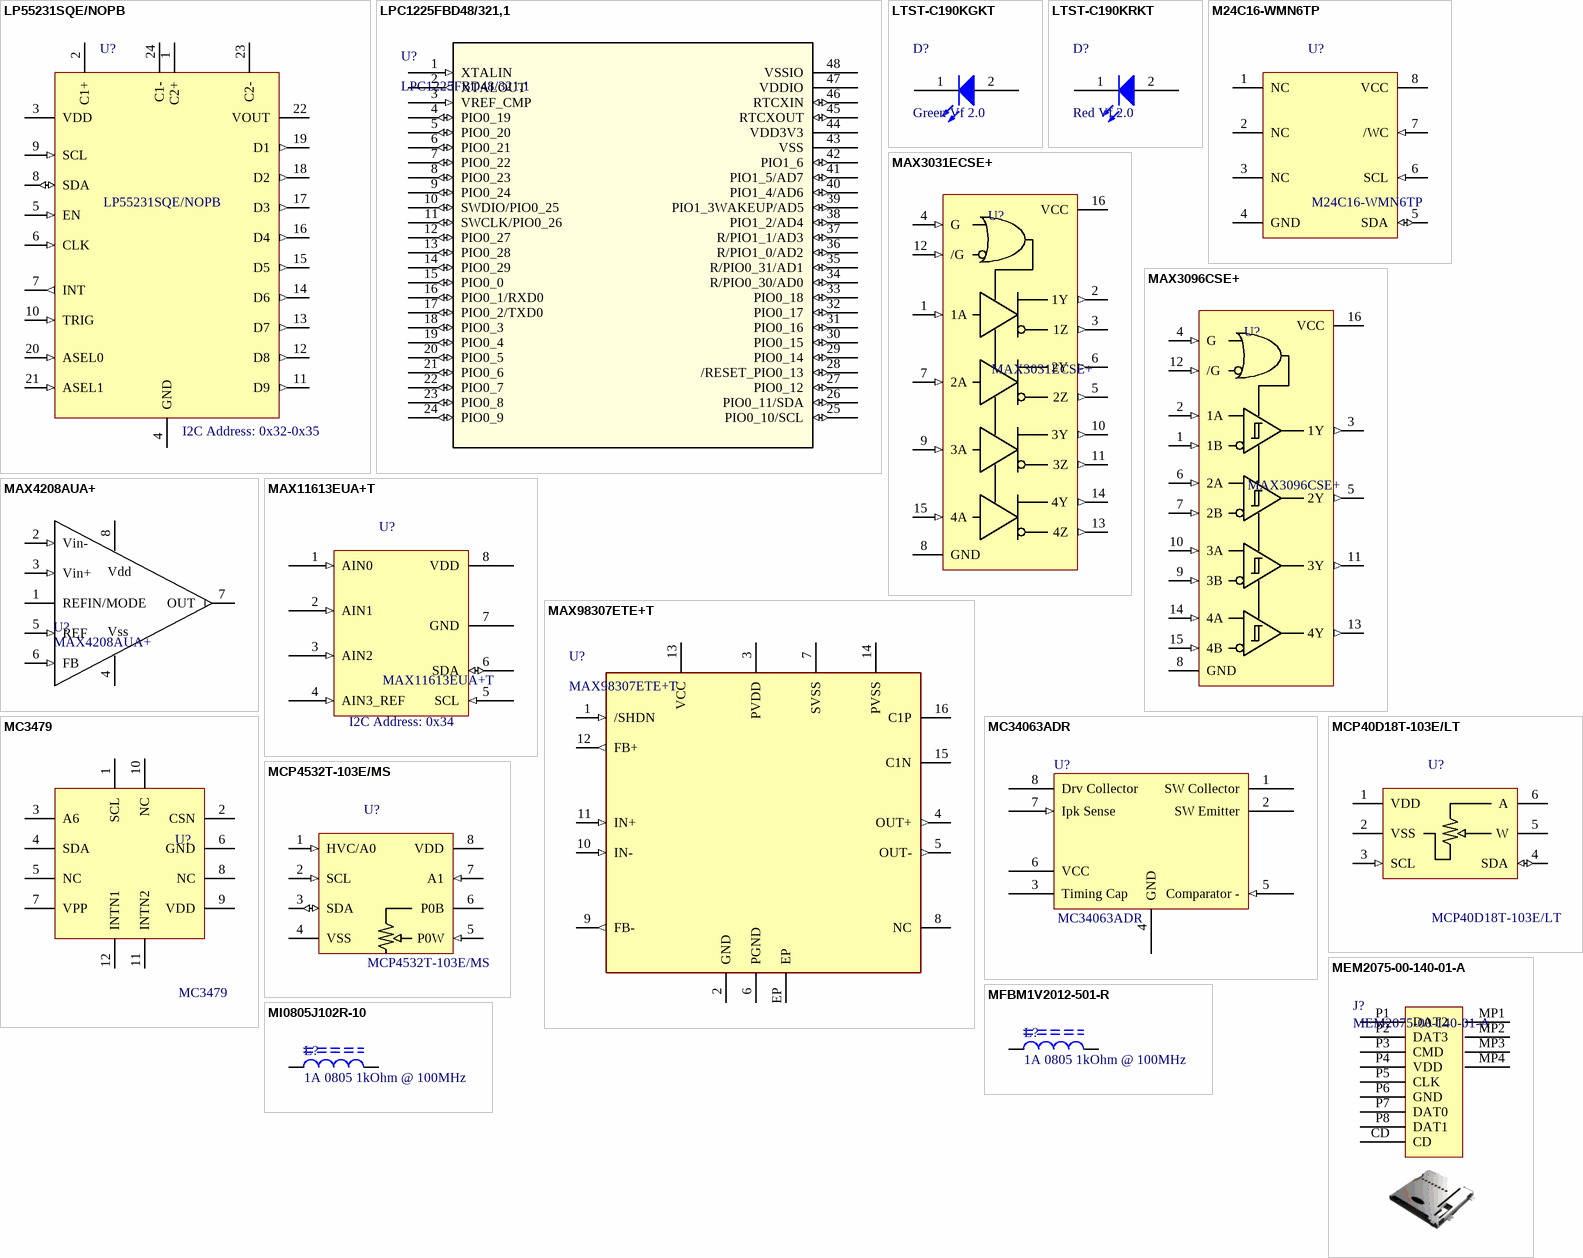
[diagram p5: symbols LP55231SQE/NOPB to MI0805J102R-10]

## LP55231SQE/NOPB
designator U?  I2C Address: I2C Address: 0x32-0x35
IC LED DRIVER RGLTR DIM 24WQFN; Manufacturer: Texas Instruments; Number of Bits: 16; Number of Inputs: 9; Data Interface: I2C; Supply Voltage: 2.7V ~ 5.5V; Type: DC DC Regulator; ComponentLink1Description: Link; ComponentLink1URL: https://www.digikey.com/en/products/detail/maxim-integrated/MAX11613EUA-T/2062201; Manufacturer Part Number: LP55231SQE/NOPB; Supplier 1: Digi-Key; Supplier Part Number 1: 296-39059-1-ND
footprint 24-WQFN (4x4) w EP
pins: 1 C2+, 2 C1+, 3 VDD (power), 4 GND, 5 EN (in), 6 CLK (in), 7 INT (out), 8 SDA (io), 9 SCL (in), 10 TRIG (in), 11 D9 (out), 12 D8 (out), 13 D7 (out), 14 D6 (out), 15 D5 (out), 16 D4 (out), 17 D3 (out), 18 D2 (out), 19 D1 (out), 20 ASEL0 (in), 21 ASEL1 (in), 22 VOUT, 23 C2-, 24 C1-

## LPC1225FBD48/321,1
designator U?
IC MCU 32BIT 80KB FLASH 48LQFP; Manufacturer: NXP; Core Processor: ARM® Cortex®-M0; Core Size: 32-Bit; Speed: 45MHz; Connectivity: I²C, IrDA, Microwire, SPI, SSI, SSP, UART/USART; Number of I/O: 39; Program Memory Size: 80KB (80K x 8); RAM Size: 8K x 8; Manufacturer Part Number: LPC1225FBD48/321,1; ComponentLink1URL: https://www.mouser.com/datasheet/2/389/stm32g070cb-1517433.pdf?src-supplier=Avnet; ComponentLink1Description: https://www.mouser.com/datasheet/2/389/stm32g070cb-1517433.pdf?src-supplier=Avnet; Supplier 1: Digi-Key; Supplier 2: Mouser; Supplier Part Number 1: 568-5158-ND; Supplier Part Number 2: 771-LPC1225FBD483211
footprint STM-LQFP48_N (QFP, 48-Leads, Body 7x7mm, Pitch 0.5mm, IPC Medium Density)
pins: 1 XTALIN (in), 2 XTALOUT (out), 3 VREF_CMP (in), 4 PIO0_19 (io), 5 PIO0_20 (io), 6 PIO0_21 (io), 7 PIO0_22 (io), 8 PIO0_23 (io), 9 PIO0_24 (io), 10 SWDIO/PIO0_25 (io), 11 SWCLK/PIO0_26 (io), 12 PIO0_27 (io), 13 PIO0_28 (io), 14 PIO0_29 (io), 15 PIO0_0 (io), 16 PIO0_1/RXD0 (io), 17 PIO0_2/TXD0 (io), 18 PIO0_3 (io), 19 PIO0_4 (io), 20 PIO0_5 (io), 21 PIO0_6 (io), 22 PIO0_7 (io), 23 PIO0_8 (io), 24 PIO0_9 (io), 25 PIO0_10/SCL (io), 26 PIO0_11/SDA (io), 27 PIO0_12 (io), 28 /RESET_PIO0_13 (io), 29 PIO0_14 (io), 30 PIO0_15 (io), 31 PIO0_16 (io), 32 PIO0_17 (io), 33 PIO0_18 (io), 34 R/PIO0_30/AD0 (io), 35 R/PIO0_31/AD1 (io), 36 R/PIO1_0/AD2 (io), 37 R/PIO1_1/AD3 (io), 38 PIO1_2/AD4 (io), 39 PIO1_3WAKEUP/AD5 (io), 40 PIO1_4/AD6 (io), 41 PIO1_5/AD7 (io), 42 PIO1_6 (io), 43 VSS (power), 44 VDD3V3 (power), 45 RTCXOUT (io), 46 RTCXIN (io), 47 VDDIO (power), 48 VSSIO (power)

## LTST-C190KGKT
designator D?, comment Green Vf 2.0
LED GREEN CLEAR CHIP 0603; Manufacturer: Lite-On Inc; Manufacturer Part Number: LTST-C190KGKT; Lens Color: Colorless; Millicandela Rating: 100mcd; Lens Style/Size: Rectangle with Flat Top, 1.10mm x 0.80mm; Voltage - Forward (Vf) (Typ): 2V; Current - Test: 20mA; Wavelength - Dominant: 571nm; Wavelength - Peak: 574nm; Stock 1: 2439; Viewing Angle: -; Category: Optoelectronics; Pricing 1: 1=0.47, 10=0.337, 25=0.258, 100=0.1683, 250=0.12344, 500=0.10472, 1000=0.08602 (USD); Lens Transparency: Clear; Mounting Type: Surface Mount; Height (Max): 0.60mm; Supplier 1: Digi-Key; Supplier Part Number 1: 160-1435-1-ND
footprint LED0603_GREEN
pins: 1 K, 2 A

## LTST-C190KRKT
designator D?, comment Red Vf 2.0
LED RED CLEAR CHIP 0603; Manufacturer: Lite-On Inc; Manufacturer Part Number: LTST-C190KRKT; Lens Color: Colorless; Millicandela Rating: 100mcd; Lens Style/Size: Rectangle with Flat Top, 1.10mm x 0.80mm; Voltage - Forward (Vf) (Typ): 2V; Current - Test: 20mA; Wavelength - Dominant: 631nm; Wavelength - Peak: 639nm; Stock 1: 2439; Viewing Angle: -; Category: Optoelectronics; Pricing 1: 1=0.47, 10=0.337, 25=0.258, 100=0.1683, 250=0.12344, 500=0.10472, 1000=0.08602 (USD); Lens Transparency: Clear; Mounting Type: Surface Mount; Height (Max): 0.60mm; Supplier 1: Digi-Key; Supplier Part Number 1: 160-1436-1-ND
footprint LED0603_RED
pins: 1 K, 2 A

## M24C16-WMN6TP
designator U?
IC EEPROM 16KBIT I2C 400KHZ 8SO; Manufacturer: NXP; Supply Voltage: 2.5V ~ 5.5V; Memory Size: 16Kb (2K x 8); Type: EEPROM; Data Interface: I2C; ComponentLink1Description: Link; ComponentLink1URL: https://www.digikey.com/en/products/detail/maxim-integrated/MAX11613EUA-T/2062201; Manufacturer Part Number: M24C16-WMN6TP; Supplier 1: Digi-Key; Supplier Part Number 1: 497-17785-1-ND
footprint SOIC-8 3.9mm Width
pins: 1 NC, 2 NC, 3 NC, 4 GND, 5 SDA (io), 6 SCL (in), 7 /WC (in), 8 VCC (power)

## MAX3031ECSE+
designator U?
IC DRIVER 4/0 16SOIC; Manufacturer: Maxim Integrated; Supply Voltage: 3V ~ 3.6V; Protocols: RS422, RS485; ComponentLink1Description: Link; ComponentLink1URL: https://www.digikey.com/en/products/detail/maxim-integrated/MAX11613EUA-T/2062201; Manufacturer Part Number: MAX3031ECSE+; Drivers/Receivers: 4/0; Type: Driver; Supplier 1: Digi-Key; Supplier Part Number 1: MAX3031ECSE+-ND; Supplier 2: Mouser; Supplier Part Number 2: 700-MAX3031ECSE
footprint SOIC-16 3.9mm Width
pins: 1 1A (in), 2 1Y (out), 3 1Z (out), 4 G (in), 5 2Z (out), 6 2Y (out), 7 2A (in), 8 GND (power), 9 3A (in), 10 3Y (out), 11 3Z (out), 12 /G (in), 13 4Z (out), 14 4Y (out), 15 4A (in), 16 VCC (power)

## MAX3096CSE+
designator U?
IC RECEIVER 0/4 16SOIC; Manufacturer: Texas Instruments; Supply Voltage: 3V ~ 3.6V; Protocols: RS422, RS485; ComponentLink1Description: Link; ComponentLink1URL: https://www.digikey.com/en/products/detail/maxim-integrated/MAX11613EUA-T/2062201; Manufacturer Part Number: MAX3096CSE+; Drivers/Receivers: 0/4; Type: Driver; Supplier 1: Digi-Key; Supplier Part Number 1: MAX3096CSE+-ND; Supplier 2: Mouser; Supplier Part Number 2: 700-MAX3096CSE
footprint SOIC-16 3.9mm Width
pins: 1 1B (in), 2 1A (in), 3 1Y (out), 4 G (in), 5 2Y (out), 6 2A (in), 7 2B (in), 8 GND (power), 9 3B (in), 10 3A (in), 11 3Y (out), 12 /G (in), 13 4Y (out), 14 4A (in), 15 4B (in), 16 VCC (power)

## MAX4208AUA+
designator U?
IC INST AMP 1 CIRCUIT 8UMAX; Manufacturer: Maxim; Gain Bandwidth Product: 750kHz; Supply Voltage: 2.85V ~ 5.5V, ±1.425V ~ 2.25V; Slew Rate: 0.08V/µs; Voltage - Input Offset: 3µV; Current - Input Bias: 1pA; Current - Supply: 1.4mA; Output Type: Rail-to-Rail; Current - Output / Channel: 25mA; Manufacturer Part Number: MAX4208AUA+; Stock 1: 202; Supplier 1: Digi-Key; Supplier Part Number 1: MAX4208AUA+-ND
footprint VSSOP-8 3.0mm body width, pitch 0.65mm
pins: 1 REFIN/MODE (power), 2 Vin- (in), 3 Vin+ (in), 4 Vss (power), 5 REF (in), 6 FB (in), 7 OUT (out), 8 V+ (power)
text: Vdd

## MAX11613EUA+T
designator U?  I2C Address: I2C Address: 0x34
IC ADC 12BIT SAR 8UMAX; Manufacturer: Maxim; Number of Bits: 12; Sample Rate: 94.4k; Number of Inputs: 2, 4; Data Interface: I2C; Supply Voltage: 2.7V ~ 3.6V; Stock 1: 6667; Case/Package: TSSOP-8; ComponentLink1Description: Link; ComponentLink1URL: https://www.digikey.com/en/products/detail/maxim-integrated/MAX11613EUA-T/2062201; Supplier 1: Digi-Key; Supplier Part Number 1: MAX11613EUA+CT-ND; Manufacturer Part Number: MAX11613EUA+T
footprint TSOP65P490X110-8N (TSOP, 8-Leads, Body 3.00x3.00mm, Pitch 0.65mm, IPC Medium Density)
pins: 1 AIN0 (in), 2 AIN1 (in), 3 AIN2 (in), 4 AIN3_REF (in), 5 SCL (in), 6 SDA (io), 7 GND (power), 8 VDD (power)

## MAX98307ETE+T
designator U?
IC AMP CLASS DG MONO 3.3W 16TQFN; Manufacturer: Maxim; Voltage - Supply: 2.6V-5.25V; Interface: Analog; Output Power: 3.3W @ 8ohm; Manufacturer's Part Number: MAX98307ETE+T; Operating Temperature: -40°C ~ 85°C; Type: Class DG; Supplier 1: Digi-Key; Supplier Part Number 1: MAX98307ETE+TCT-ND; Supplier 2: Newark; Supplier Part Number 2: 73Y6586; Supplier 3: Mouser; Supplier Part Number 3: 700-MAX98307ETE+T; Supplier 4: RSComponents; Supplier Part Number 4: 1904724
footprint TQFN-16 3x3mm, Pitch 0.5mm
pins: 1 /SHDN (in), 2 GND (power), 3 PVDD (power), 4 OUT+ (out), 5 OUT- (out), 6 PGND (power), 7 SVSS (power), 8 NC, 9 FB- (out), 10 IN- (in), 11 IN+ (in), 12 FB+ (out), 13 VCC (power), 14 PVSS (power), 15 C1N (power), 16 C1P (power), EP (power)

## MC3479
designator U?
3-AXIS ACCELEROMETER; Manufacturer: Memsic; Interface: I2C; Manufacturer Part Number: MC3479; Supplier 1: Digi-Key; Supplier Part Number 1: 3502-MC3479CT-ND
footprint 12-LGA (12-LGA (2mmx2mm))
pins: 1 SCL, 2 CSN, 3 A6, 4 SDA, 5 NC, 6 GND, 7 VPP, 8 NC, 9 VDD, 10 NC, 11 INTN2, 12 INTN1

## MC34063ADR
designator U?
IC REG BUCK BST ADJ 1.5A 8SOIC; Manufacturer: Texas Instruments; Topology: Buck, Boost; Number of Outputs: 1; Current - Output: 1.5A (Switch); Voltage - Output (Max): 40V; Switching Frequency: 100kHz; Voltage - Input (Min): 3V; Output Type: Adjustable; Synchronous Rectifier: No; Voltage - Output (Min/Fixed): 1.25V; Manufacturer Part Number: MC34063ADR; Stock 1: 25959; Operating Temperature: 0°C ~ 70°C (TA); Voltage - Input (Max): 40V; Supplier 1: Digi-Key; Supplier Part Number 1: 296-17765-1-ND
footprint 8-SO PowerPad
pins: 1 SW Collector (power), 2 SW Emitter (power), 3 Timing Cap (power), 4 GND (power), 5 Comparator - (in), 6 VCC (power), 7 Ipk Sense (in), 8 Drv Collector (power)

## MCP40D18T-103E/LT
designator U?
IC DGTL POT 10KOHM 128TAP SC70-6; Manufacturer: Microchip; Interface: I2C; Voltage: 1.8V ~ 5.5V; Manufacturer Part Number: MCP40D18T-103E/LT; Category: Potentiometer; Operating Temperature: -40°C ~ 125°C; Supplier 1: Mouser; Supplier 2: Digi-Key; Supplier Part Number 1: 579-MCP40D18T103E/LT; Supplier Part Number 2: MCP40D18T-103E/LTCT-ND
footprint SC70-6
pins: 1 VDD (power), 2 VSS (power), 3 SCL (in), 4 SDA (io), 5 W, 6 A

## MCP4532T-103E/MS
designator U?
IC DGTL POT 10KOHM 129TAP 8MSOP; Manufacturer: Microchip; Interface: I2C; Voltage: 1.8V ~ 5.5V; Manufacturer Part Number: MCP4532T-103E/MS; Category: Rheostat; Operating Temperature: -40°C ~ 125°C; Supplier 1: Digi-Key; Supplier 2: Mouser; Supplier Part Number 1: MCP4532T-103E/MSCT-ND; Supplier Part Number 2: 579-MCP4532T-103E/MS
footprint MSOP-8 EP 3mm
pins: 1 HVC/A0 (in), 2 SCL (in), 3 SDA (io), 4 VSS (power), 5 P0W (in), 6 P0B, 7 A1 (in), 8 VDD (power)

## MEM2075-00-140-01-A
designator J?
MICRO SD PUSH-PUSH, SMT, 1.40MM; Manufacturer: GCT; Number of Positions: 9 (8 + 1); Pitch: 1.1mm; Manufacturer Part Number: MEM2075-00-140-01-A; Category: uSD card reader; Number of Rows: 1; Height: 1.4mm; Supplier 1: Digi-Key; Supplier Part Number 1: 2073-MEM2075-00-140-01-ACT-ND
footprint MEM2075-00-140-01-A
pins: CD, MP1, MP2, MP3, MP4, P1 DAT2, P2 DAT3, P3 CMD, P4 VDD, P5 CLK, P6 GND, P7 DAT0, P8 DAT1

## MFBM1V2012-501-R
designator L?, comment 1A 0805 1kOhm @ 100MHz
FERRITE BEAD 1 KOHM 0805 1LN; Manufacturer: Eaton - Electronics Division; Manufacturer Part Number: FBMJ2125HS420-T; Core Material: Metal,Composite; Current Rating: 2A; DC Resistance (DCR): 100mOhm; Impedance @ Frequency: 500Ohm @ 100MHz; Stock 1: 2141; Case/Package: 0805; Min Operating Temperature: -40°C; Max Operating Temperature: 125°C; Supplier 1: Digi-Key; Supplier Part Number 1: 283-MFBM1V2012-501-RCT-ND; Supplier 2: Digi-Key; Supplier Part Number 2: 240-2588-1-ND
footprint CAPC2012X14N (Chip Capacitor, 2-Leads, Body 2.00x1.25mm, IPC Medium Density)
pins: 1, 2

## MI0805J102R-10
designator L?, comment 1A 0805 1kOhm @ 100MHz
FERRITE BEAD 1 KOHM 0805 1LN; Manufacturer: Eaton - Electronics Division; Manufacturer Part Number: MFBM1V2012-501-R; Core Material: Metal,Composite; Current Rating: 2A; DC Resistance (DCR): 150mOhm; Impedance @ Frequency: 500Ohm @ 100MHz; Stock 1: 43,262; Case/Package: 0805; Min Operating Temperature: -40°C; Max Operating Temperature: 125°C; Supplier 1: Digi-Key; Supplier Part Number 1: 283-MFBM1V2012-501-RCT-ND; Supplier 2: Digi-Key; Supplier Part Number 2: 240-2588-1-ND
footprint CAPC2012X14N (Chip Capacitor, 2-Leads, Body 2.00x1.25mm, IPC Medium Density)
pins: 1, 2

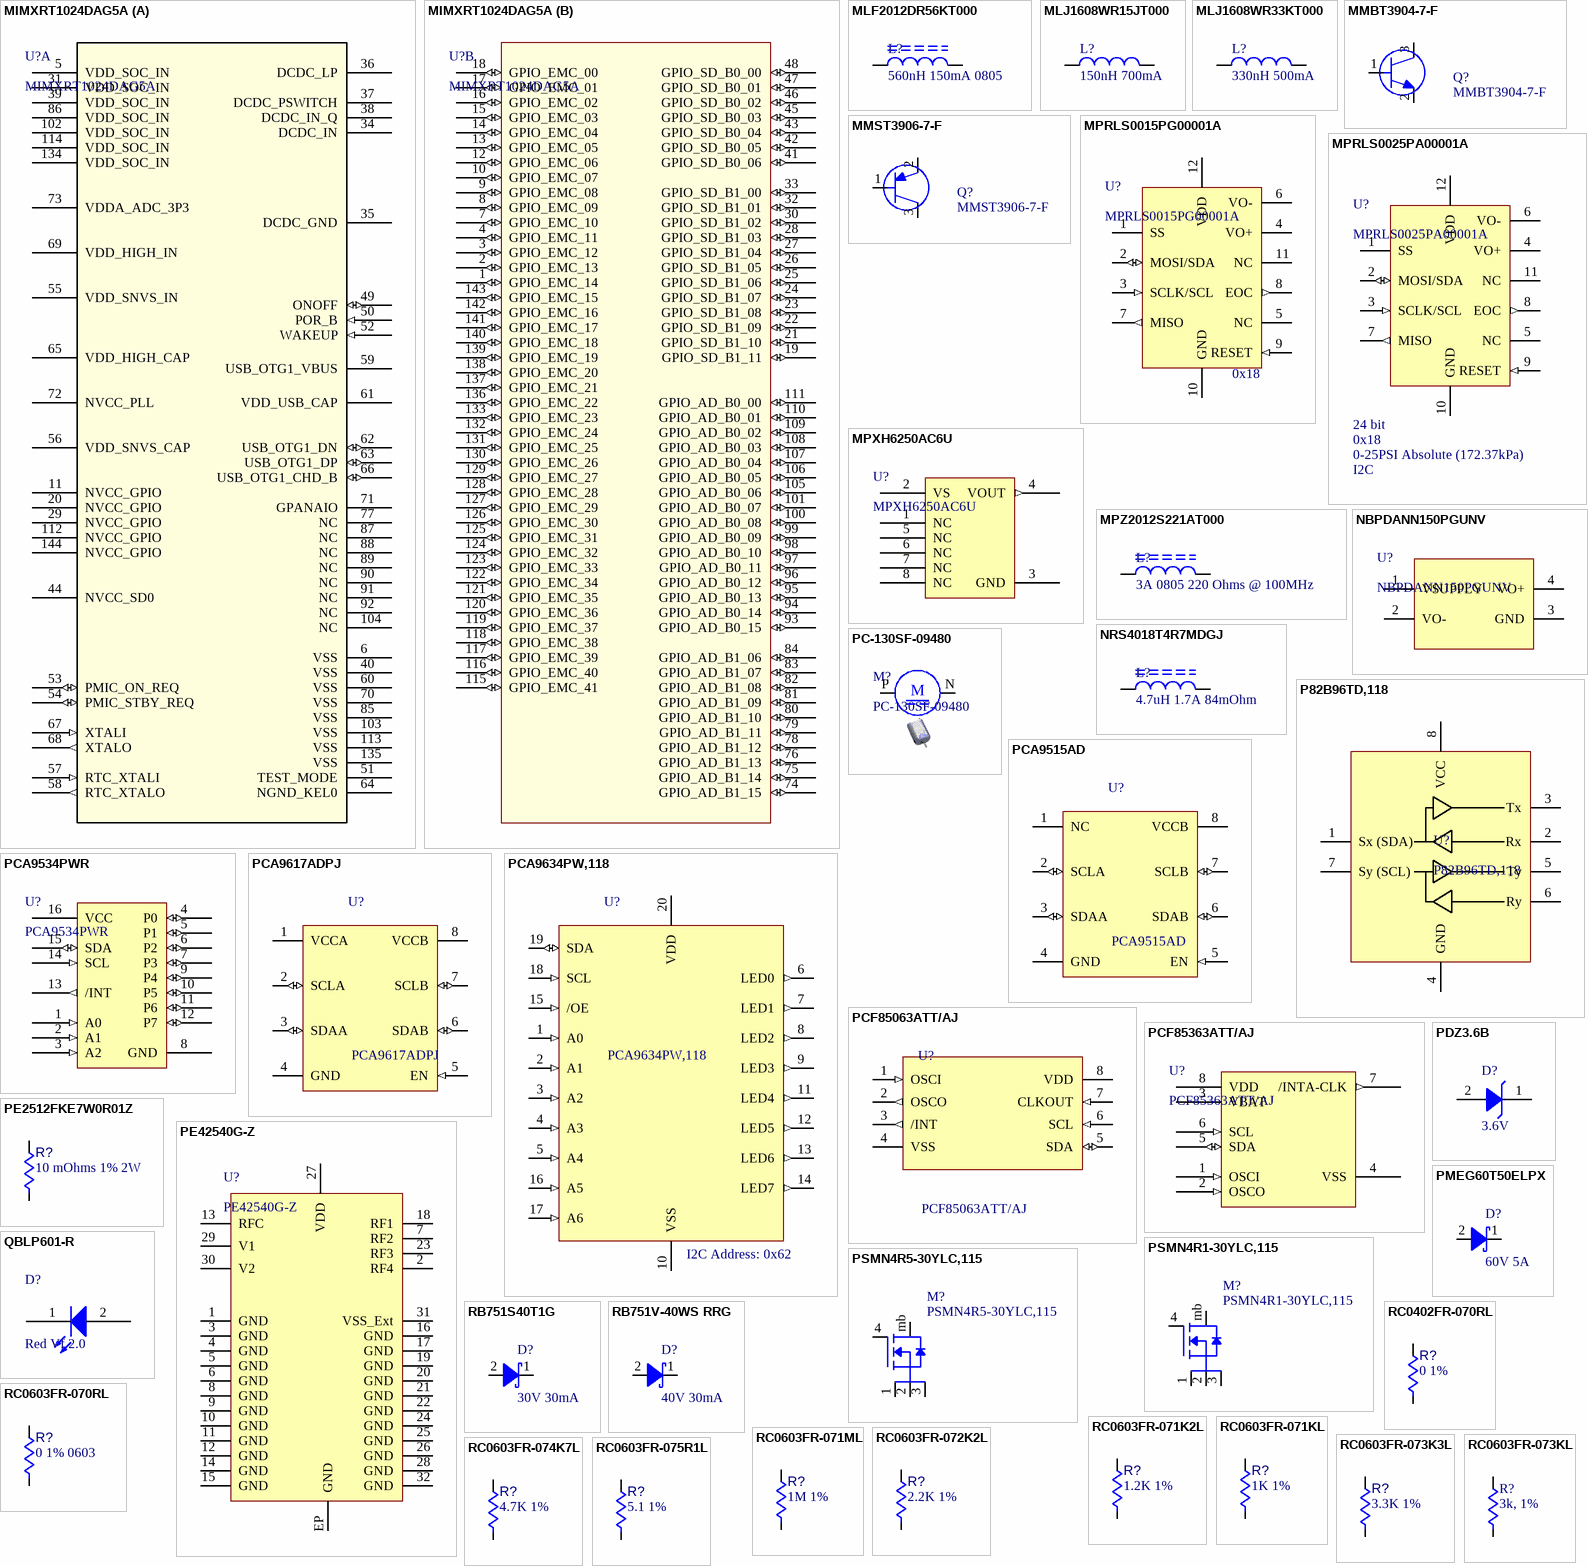
[diagram p6: symbols MIMXRT1024DAG5A to RC0603FR-075R1L]

## MIMXRT1024DAG5A
designator U?
I.MX RT1024 4MB / 256KB LQFP101; Manufacturer: NXP; Data Bus Width: 32 bit; Maximum Clock Frequency: 500MHz; Supply Voltage: 3 V to 3.6 V; Data ROM Size: 96 kB; Interface Type: I2C, SPI, UART, USB; Timers/Counters: 2; Manufacturer Part Number: MIMXRT1024DAG5A; ComponentLink1URL: https://www.mouser.com/datasheet/2/389/stm32g070cb-1517433.pdf?src-supplier=Avnet; ComponentLink1Description: https://www.mouser.com/datasheet/2/389/stm32g070cb-1517433.pdf?src-supplier=Avnet; Package: LQFP-144; Data RAM Size: 256kB; Temperature Range: 0-95C; Supplier 1: Digi-Key; Supplier Part Number 1: 568-MIMXRT1024DAG5A-ND; Supplier 2: Mouser; Supplier Part Number 2: 771-MIMXRT1024DAG5A
footprint TQFP-144 0.5mm pitch
part A pins: 5 VDD_SOC_IN (power), 6 VSS (power), 11 NVCC_GPIO (power), 20 NVCC_GPIO (power), 29 NVCC_GPIO (power), 31 VDD_SOC_IN (power), 34 DCDC_IN (power), 35 DCDC_GND (power), 36 DCDC_LP (power), 37 DCDC_PSWITCH (power), 38 DCDC_IN_Q (power), 39 VDD_SOC_IN (power), 40 VSS (power), 44 NVCC_SD0 (power), 49 ONOFF (io), 50 POR_B (in), 51 TEST_MODE, 52 WAKEUP (in), 53 PMIC_ON_REQ (io), 54 PMIC_STBY_REQ (io), 55 VDD_SNVS_IN (power), 56 VDD_SNVS_CAP (power), 57 RTC_XTALI (in), 58 RTC_XTALO (out), 59 USB_OTG1_VBUS (power), 60 VSS (power), 61 VDD_USB_CAP (power), 62 USB_OTG1_DN (io), 63 USB_OTG1_DP (io), 64 NGND_KEL0 (power), 65 VDD_HIGH_CAP (power), 66 USB_OTG1_CHD_B (io), 67 XTALI (in), 68 XTALO (out), 69 VDD_HIGH_IN (power), 70 VSS (power), 71 GPANAIO, 72 NVCC_PLL (power), 73 VDDA_ADC_3P3 (power), 77 NC, 85 VSS (power), 86 VDD_SOC_IN (power), 87 NC, 88 NC, 89 NC, 90 NC, 91 NC, 92 NC, 102 VDD_SOC_IN (power), 103 VSS (power), 104 NC, 112 NVCC_GPIO (power), 113 VSS (power), 114 VDD_SOC_IN (power), 134 VDD_SOC_IN (power), 135 VSS (power), 144 NVCC_GPIO (power)
part B pins: 1 GPIO_EMC_14 (io), 2 GPIO_EMC_13 (io), 3 GPIO_EMC_12 (io), 4 GPIO_EMC_11 (io), 7 GPIO_EMC_10 (io), 8 GPIO_EMC_09 (io), 9 GPIO_EMC_08 (io), 10 GPIO_EMC_07 (io), 12 GPIO_EMC_06 (io), 13 GPIO_EMC_05 (io), 14 GPIO_EMC_04 (io), 15 GPIO_EMC_03 (io), 16 GPIO_EMC_02 (io), 17 GPIO_EMC_01 (io), 18 GPIO_EMC_00 (io), 19 GPIO_SD_B1_11 (io), 21 GPIO_SD_B1_10 (io), 22 GPIO_SD_B1_09 (io), 23 GPIO_SD_B1_08 (io), 24 GPIO_SD_B1_07 (io), 25 GPIO_SD_B1_06 (io), 26 GPIO_SD_B1_05 (io), 27 GPIO_SD_B1_04 (io), 28 GPIO_SD_B1_03 (io), 30 GPIO_SD_B1_02 (io), 32 GPIO_SD_B1_01 (io), 33 GPIO_SD_B1_00 (io), 41 GPIO_SD_B0_06 (io), 42 GPIO_SD_B0_05 (io), 43 GPIO_SD_B0_04 (io), 45 GPIO_SD_B0_03 (io), 46 GPIO_SD_B0_02 (io), 47 GPIO_SD_B0_01 (io), 48 GPIO_SD_B0_00 (io), 74 GPIO_AD_B1_15 (io), 75 GPIO_AD_B1_14 (io), 76 GPIO_AD_B1_13 (io), 78 GPIO_AD_B1_12 (io), 79 GPIO_AD_B1_11 (io), 80 GPIO_AD_B1_10 (io), 81 GPIO_AD_B1_09 (io), 82 GPIO_AD_B1_08 (io), 83 GPIO_AD_B1_07 (io), 84 GPIO_AD_B1_06 (io), 93 GPIO_AD_B0_15 (io), 94 GPIO_AD_B0_14 (io), 95 GPIO_AD_B0_13 (io), 96 GPIO_AD_B0_12 (io), 97 GPIO_AD_B0_11 (io), 98 GPIO_AD_B0_10 (io), 99 GPIO_AD_B0_09 (io), 100 GPIO_AD_B0_08 (io), 101 GPIO_AD_B0_07 (io), 105 GPIO_AD_B0_06 (io), 106 GPIO_AD_B0_05 (io), 107 GPIO_AD_B0_04 (io), 108 GPIO_AD_B0_03 (io), 109 GPIO_AD_B0_02 (io), 110 GPIO_AD_B0_01 (io), 111 GPIO_AD_B0_00 (io), 115 GPIO_EMC_41 (io), 116 GPIO_EMC_40 (io), 117 GPIO_EMC_39 (io), 118 GPIO_EMC_38 (io), 119 GPIO_EMC_37 (io), 120 GPIO_EMC_36 (io), 121 GPIO_EMC_35 (io), 122 GPIO_EMC_34 (io), 123 GPIO_EMC_33 (io), 124 GPIO_EMC_32 (io), 125 GPIO_EMC_31 (io), 126 GPIO_EMC_30 (io), 127 GPIO_EMC_29 (io), 128 GPIO_EMC_28 (io), 129 GPIO_EMC_27 (io), 130 GPIO_EMC_26 (io), 131 GPIO_EMC_25 (io), 132 GPIO_EMC_24 (io), 133 GPIO_EMC_23 (io), 136 GPIO_EMC_22 (io), 137 GPIO_EMC_21 (io), 138 GPIO_EMC_20 (io), 139 GPIO_EMC_19 (io), 140 GPIO_EMC_18 (io), 141 GPIO_EMC_17 (io), 142 GPIO_EMC_16 (io), 143 GPIO_EMC_15 (io)

## MLF2012DR56KT000
designator L?, comment 560nH 150mA 0805
FIXED IND 560NH 150MA 550 MOHM; Manufacturer: TDK; Manufacturer Part Number: MLF2012DR56KT000; Core Material: Ferrite; Inductance Frequency - Test: 25MHz; Frequency - Self Resonant: 150MHz; Q @ Freq: 25 @ 25MHz; Tolerance: ±10%; Stock 1: 7,907; Case/Package: 0805; Min Operating Temperature: -40°C; Max Operating Temperature: 125°C; Current Rating: 150mA; Inductance: 560nH; Supplier 1: Digi-Key; Supplier Part Number 1: 445-1044-1-ND
footprint Chip2PinSM127P600-8N
pins: 1, 2

## MLJ1608WR15JT000
designator L?, comment 150nH 700mA
FIXED IND 150NH 700MA 160 MOHM; Manufacturer: TDK; Manufacturer Part Number: MLJ1608WR15JT000; Core Material: Ferrite; Tolerance: 5%; Shielding: Unshielded; Test Frequency: 25MHz; Frequency - Self Resonant: 350MHz; Case/Package: 0603; Min Operating Temperature: -55°C; Max Operating Temperature: 125°C; Inductance: 150nH; Current Rating: 700mA; DC Resistance (DCR): 160mohm; Supplier 1: Digi-Key; Supplier Part Number 1: 445-181511-1-ND
footprint RESC1608X06N (Chip Resistor, 2-Leads, Body 1.60x0.80mm, IPC Medium Density)
pins: 1, 2

## MLJ1608WR33KT000
designator L?, comment 330nH 500mA
FIXED IND 330NH 500MA 312 MOHM; Manufacturer: TDK; Manufacturer Part Number: MLJ1608WR33KT000; Core Material: Ferrite; Tolerance: 10%; Shielding: Unshielded; Test Frequency: 25MHz; Frequency - Self Resonant: 230MHz; Case/Package: 0603; Min Operating Temperature: -55°C; Max Operating Temperature: 125°C; Inductance: 330nH; Current Rating: 500mA; DC Resistance (DCR): 312mohm; Supplier 1: Digi-Key; Supplier Part Number 1: 445-174197-1-ND
footprint RESC1608X06N (Chip Resistor, 2-Leads, Body 1.60x0.80mm, IPC Medium Density)
pins: 1, 2

## MMBT3904-7-F
designator Q?
TRANS NPN 40V 0.2A SMD SOT23-3; Manufacturer: Diodes; Frequency - Transition: 300MHz; Power - Max: 300mW; Ic - Max: 200mA; VCE - Sat: 300mV @ 5mA, 50mA; Manufacturer Part Number: MMBT3904-7-F; Min Operating Temperature: -55°C; Max Operating Temperature: 150°C; VCE (max): 40V; Type: NPN; Supplier 1: Digi-Key; Supplier Part Number 1: MMBT3904TPMSCT-ND; Supplier 2: Newark; Supplier Part Number 2: 34R4175; Supplier 3: Mouser; Supplier Part Number 3: 771-MMBT3904T/R
footprint SOT23 TI# SOT-23 3L (SOT23, 3-Leads, Body 2.92x2.40mm, Pitch 0.95mm, IPC Medium Density)
pins: 1 G, 2 S, 3 D

## MMST3906-7-F
designator Q?
TRANS PNP 40V 0.2A SC70-3; Manufacturer: Diodes; Frequency - Transition: 300MHz; Power - Max: 200mW; Ic - Max: 200mA; VCE - Sat: 300mV @ 5mA, 50mA; DC Current Gain (hFE) (Min) @ Ic, Vce: 100 @ 10mA, 1V; Manufacturer Part Number: MMST3906-7-F; Min Operating Temperature: -55°C; Max Operating Temperature: 150°C; VCE (max): 40V; Type: PNP; Supplier 1: Digi-Key; Supplier Part Number 1: MMST3906-FDICT-ND
footprint SOT23 TI# SOT-23 3L (SOT23, 3-Leads, Body 2.92x2.40mm, Pitch 0.95mm, IPC Medium Density)
pins: 1 G, 2 D, 3 S

## MPRLS0015PG00001A
designator U?  Address: 0x18
MICRO PRESSURE SENSOR; Manufacturer: Honeywell; Interface: I2C; Pressure Range: 15PSI Gauge; Supply Voltage: 1.8~3.6V; Manufacturer Part Number: MPRLS0015PG00001A; Supplier 1: RSComponents; Supplier Part Number 1: 1976894; Supplier 2: Farnell; Supplier Part Number 2: 3643170
footprint MPRL Pessure Sensor
pins: 1 SS, 2 MOSI/SDA (io), 3 SCLK/SCL (in), 4 VO+, 5 NC, 6 VO-, 7 MISO (out), 8 EOC (out), 9 RESET (in), 10 GND, 11 NC, 12 VDD

## MPRLS0025PA00001A
designator U?  Interface: I2C  Pressure Range: 0-25PSI Absolute (172.37kPa)  I2C Address: 0x18  Resolution: 24 bit
MICRO PRESSURE SENSOR; Manufacturer: Honeywell; Supply Voltage: 1.8~3.6V; Max Pressure: 60PSI (413.69kPa); Manufacturer Part Number: MPRLS0025PA00001A; Supplier 1: Mouser; Supplier Part Number 1: 785-MPRLS0025PA00001; Supplier 2: Arrow Electronics; Supplier Part Number 2: MPRLS0025PA00001A; Supplier 3: RSComponents; Supplier Part Number 3: 1976896
footprint MPRL Pessure Sensor
pins: 1 SS, 2 MOSI/SDA (io), 3 SCLK/SCL (in), 4 VO+, 5 NC, 6 VO-, 7 MISO (out), 8 EOC (out), 9 RESET (in), 10 GND, 11 NC, 12 VDD